# Altium schematic symbol library EMG_MainBoard_Placement_Frozen_20260924.SchLib: 231 symbols (part 4 of 4)
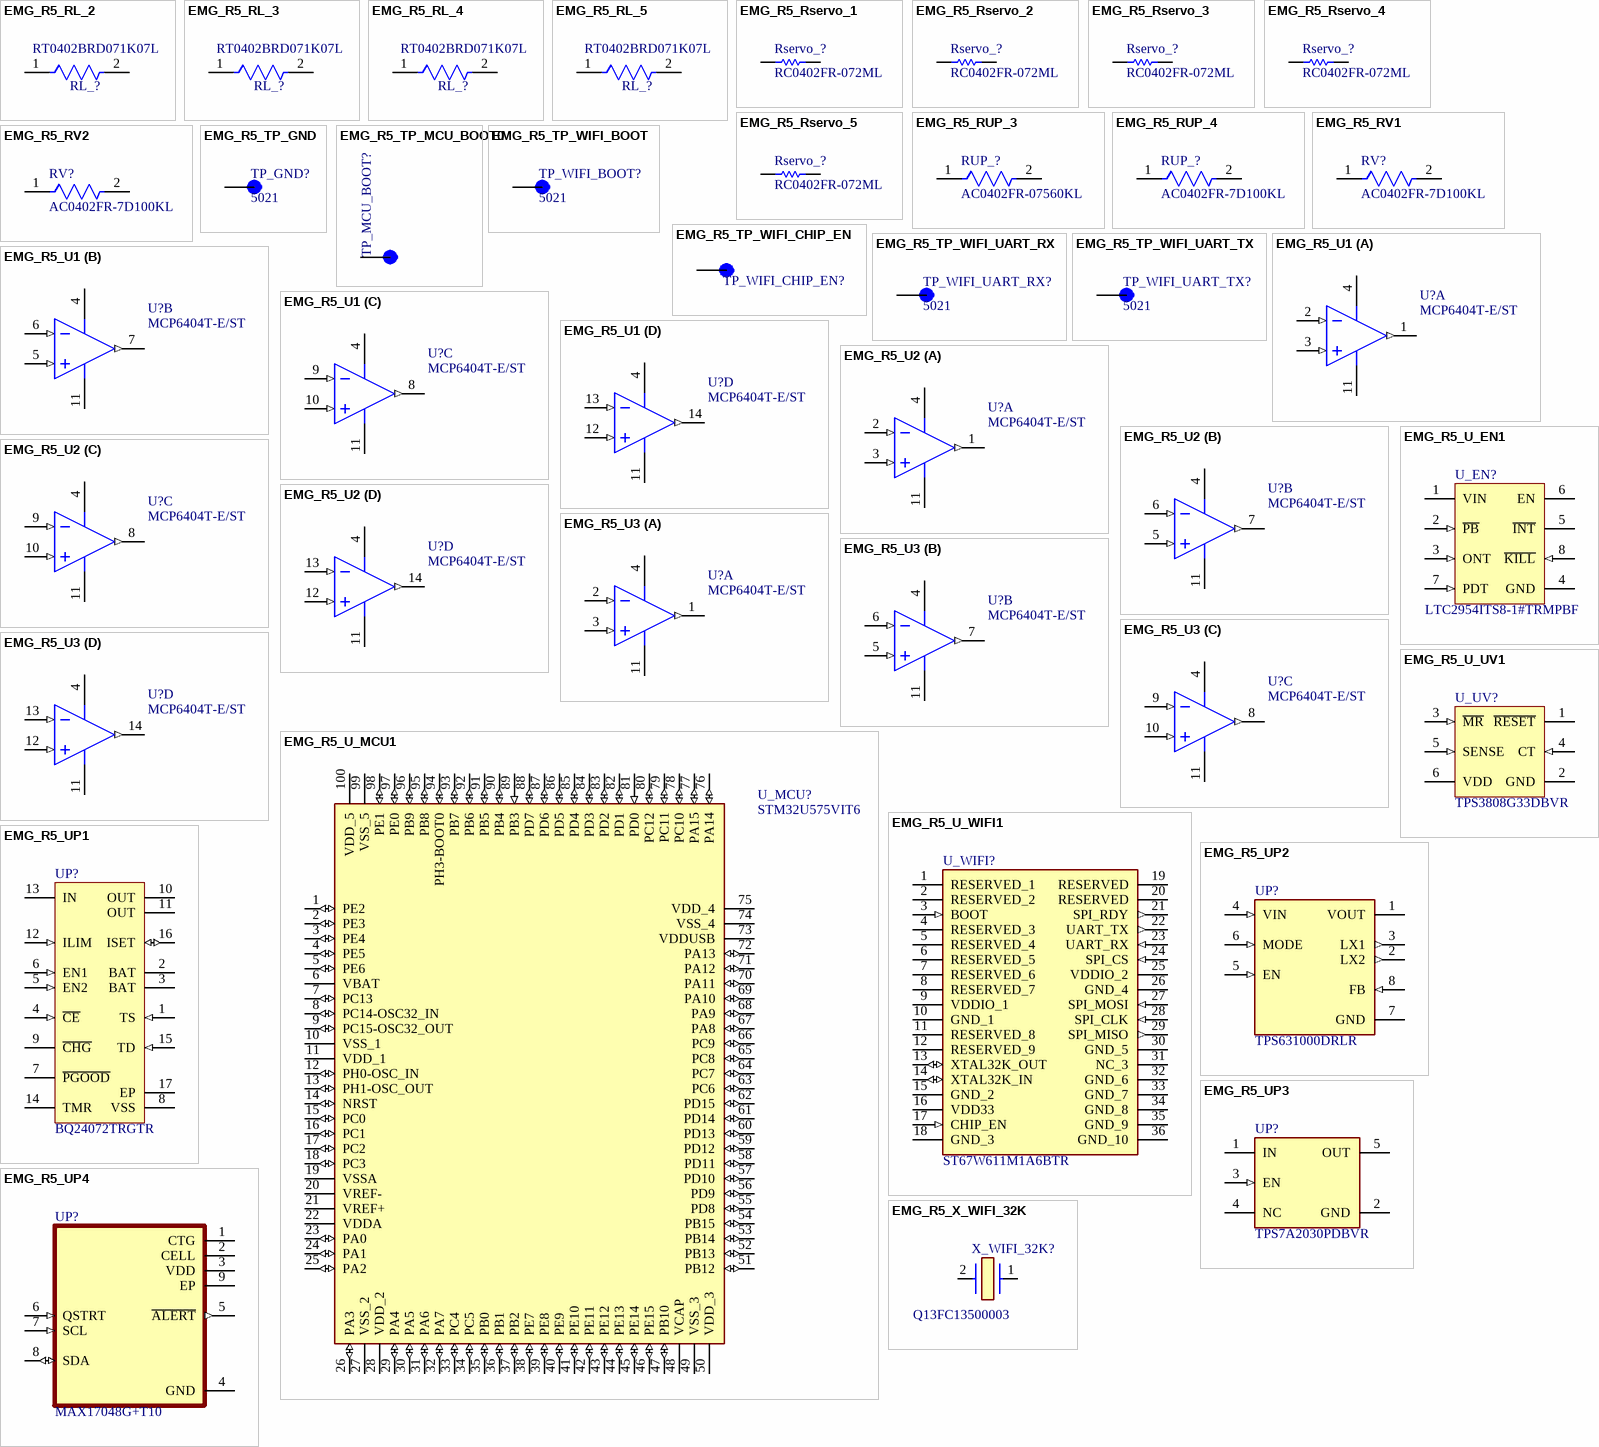
[diagram p8: symbols EMG_R5_RL_2 to EMG_R5_X_WIFI_32K]

## EMG_R5_U3
designator U?, comment MCP6404T-E/ST
None; Nominal Supply Current: 45uA; Power Supply Rejection Ratio (PSRR): 63dB; Unity Gain Bandwidth Product: 1MHz; Amplifier Type: GENERAL PURPOSE; Voltage Gain: 110dB; Number of Channels: 4; Output Current: 15mA; Max Supply Voltage: 6V; Min Supply Voltage: 1.8V; Slew Rate: 0.5V/µs; Input Bias Current: 100pA; Input Offset Voltage (Vos): 4.5mV; Common Mode Rejection Ratio: 56dB; Controlled Revision: R5 2026-09-16; project-local frozen symbol/footprint; Number of Pins: 14; Case/Package: TSSOP; Packaging: Tape and Reel; Technology: CMOS; Lead Free: Lead Free; Max Operating Temperature: 125°C; Mount: Surface Mount; Number of Circuits: 4; Number of Elements: 4; Supply Current: 45uA; RoHS Compliant: Yes; Gain Bandwidth Product: 1MHz; Min Operating Temperature: -40°C
simulation model MCP6401
footprint TSSOP-ST14_N (TSOP, 14-Leads, Body 5x4.4mm, Pitch 0.65mm, IPC Medium Density)
pins on every part: 4 VDD (power), 11 VSS (power)
part A pins: 1 VOUTA (out), 2 VINA- (in), 3 VINA+ (in)
part B pins: 5 VINB+ (in), 6 VINB- (in), 7 VOUTB (out)
part C pins: 8 VOUTC (out), 9 VINC- (in), 10 VINC+ (in)
part D pins: 12 VIND+ (in), 13 VIND- (in), 14 VOUTD (out)

## EMG_R5_U_EN1
designator U_EN?, comment LTC2954ITS8-1#TRMPBF
Pushbutton On / Off  Controller with µP Interrupt, 8-pin SOT23 (TS8-8), -40 to 85 degC, Pb-Free, Mini Tape and Reel; Manufacturer: Linear Technology; Number of Supplies(#): 1; Controlled Revision: R5 2026-09-16; project-local frozen symbol/footprint; ComponentLink2URL: http://cds.linear.com/docs/en/datasheet/2954fb.pdf; DatasheetVersion: Rev. B; ComponentLink2Description: Datasheet; ComponentLink1URL: http://www.linear.com/; Packing: Mini Tape and Reel; ComponentLink3Description: Package Specification; PartNumber: LTC2954ITS8-1#TRMPBF; Code_JEDEC: MO-193; RoHS: TRUE; Mounting Technology: Surface Mount; PackageVersion: Rev. A, 08/2010; PackageDescription: 8-Pin Plastic TSOT-23, Body 2.9 x 1.63 mm, Pitch 0.65 mm; PackageReference: TS8-8; ComponentLink1Description: Manufacturer URL; ComponentLink3URL: http://cds.linear.com/docs/en/packaging/SOT_8_05-08-1637.pdf
footprint LT-TS8-8-TSOT-23_V (SOT23, 8-Leads, Body 2.9x1.75mm, Pitch 0.65mm)
pins: 1 VIN (power) "Power Supply Input: 2.7V to 26.4V", 2 ~{PB} (in) "Pushbutton Input. Connecting P\B\ to  ground through a momentary switch provides on/off  control via the EN/E\N\ and I\N\T\ outputs. An internal 100k  pull-up resistor connects to an internal 1.9V bias voltage.  The rugged (See Datasheet)", 3 ONT (in) "Turn-On Time Input. Placing an external  capacitor to ground determines the additional time (6.4  seconds/uF) the P\B\ pin must be held low before the enable  output is asserted. Floating this pin results in a default  turn (See Datasheet)", 4 GND (power) "Device Ground.", 5 ~{INT} (oc) "Open Drain Interrupt Output. After a  pushbutton turn-off event is detected (tDB,OFF ), the LTC2954  interrupts the system (uP) by asserting the I\N\T\ pin low.  The uP would perform power-down and housekeeping  tasks and (See Datasheet)", 6 EN (oc) "Open Drain Enable Output.  This pin is intended to enable system power. EN is asserted  high after a valid P\B\ turn-on event (tDB,ON + tONT). EN is  released low if: a) K\I\L\L\ is not driven high (by uP) within  512ms of (See Datasheet)", 7 PDT (in) "Power-Down Time Input. A capacitor  to ground determines the additional time (6.4 seconds/uF)  that the pushbutton must be held low before immediately  releasing the EN/E\N\ and I\N\T\ outputs. Floating this pin  results in (See Datasheet)", 8 ~{KILL} (in) "Kill Input. Forcing K\I\L\L\ low releases the  enable output. During system turn-on, this pin is blanked by  a 512ms internal timer (tK\I\L\L\,ON BLANK) to allow the system  to pull K\I\L\L\ high. This pin has an accurate 0.(See Datasheet)"

## EMG_R5_U_MCU1
designator U_MCU?, comment STM32U575VIT6
Integrated Circuit; Manufacturer_Name: STMicroelectronics; Controlled Revision: R5 2026-09-16; project-local frozen symbol/footprint; Datasheet Link: https://www.st.com/resource/en/datasheet/stm32u575ag.pdf; Height: 1.6mm; Manufacturer_Part_Number: STM32U575VIT6; Mouser Part Number: 511-STM32U575VIT6; Mouser Price/Stock: https://www.mouser.co.uk/ProductDetail/STMicroelectronics/STM32U575VIT6?qs=DRkmTr78QAR9I8TWG1L7Og%3D%3D; Arrow Part Number: STM32U575VIT6; Arrow Price/Stock: https://www.arrow.com/en/products/stm32u575vit6/stmicroelectronics.html?utm_currency=USD&region=nac
footprint QFP50P1600X1600X160-100N
pins: 1 PE2 (io), 2 PE3 (io), 3 PE4 (io), 4 PE5 (io), 5 PE6 (io), 6 VBAT (power), 7 PC13 (io), 8 PC14-OSC32_IN (io), 9 PC15-OSC32_OUT (io), 10 VSS_1 (power), 11 VDD_1 (power), 12 PH0-OSC_IN (io), 13 PH1-OSC_OUT (io), 14 NRST (io), 15 PC0 (io), 16 PC1 (io), 17 PC2 (io), 18 PC3 (io), 19 VSSA (power), 20 VREF- (power), 21 VREF+ (power), 22 VDDA (power), 23 PA0 (io), 24 PA1 (io), 25 PA2 (io), 26 PA3 (io), 27 VSS_2 (power), 28 VDD_2 (power), 29 PA4 (io), 30 PA5 (io), 31 PA6 (io), 32 PA7 (io), 33 PC4 (io), 34 PC5 (io), 35 PB0 (io), 36 PB1 (io), 37 PB2 (io), 38 PE7 (io), 39 PE8 (io), 40 PE9 (io), 41 PE10 (io), 42 PE11 (io), 43 PE12 (io), 44 PE13 (io), 45 PE14 (io), 46 PE15 (io), 47 PB10 (io), 48 VCAP (power), 49 VSS_3 (power), 50 VDD_3 (power), 51 PB12 (io), 52 PB13 (io), 53 PB14 (io), 54 PB15 (io), 55 PD8 (io), 56 PD9 (io), 57 PD10 (io), 58 PD11 (io), 59 PD12 (io), 60 PD13 (io), 61 PD14 (io), 62 PD15 (io), 63 PC6 (io), 64 PC7 (io), 65 PC8 (io), 66 PC9 (io), 67 PA8 (io), 68 PA9 (io), 69 PA10 (io), 70 PA11 (io), 71 PA12 (io), 72 PA13 (io), 73 VDDUSB (power), 74 VSS_4 (power), 75 VDD_4 (power), 76 PA14 (io), 77 PA15 (io), 78 PC10 (io), 79 PC11 (io), 80 PC12 (io), 81 PD0 (in), 82 PD1 (io), 83 PD2 (io), 84 PD3 (io), 85 PD4 (io), 86 PD5 (io), 87 PD6 (io), 88 PD7 (io), 89 PB3 (in), 90 PB4 (io), 91 PB5 (io), 92 PB6 (io), 93 PB7 (io), 94 PH3-BOOT0 (io), 95 PB8 (io), 96 PB9 (io), 97 PE0 (io), 98 PE1 (io), 99 VSS_5 (power), 100 VDD_5 (power)

## EMG_R5_U_UV1
designator U_UV?, comment TPS3808G33DBVR
Low Quiescent Current, Programmable-Delay Supervisory Circuit, 1 Supply Monitored, -40 to 125 degC, 6-pin SOT-23 (DBV), Green (RoHS & no Sb/Br); Manufacturer: Texas Instruments; Iq(Typ)(uA): 2.4; VCC(Min)(V): 1.7; Output Driver Type / Reset Output: Active-low, Open-drain; Rating: Catalog; SubFamily: Supervisor and Reset IC; # of Supplies Monitored: 1; Threshold Voltage 1 (typ)(Typ)(V): 3.07; Reset Threshold Accuracy(%): 0.5; VCC(Max)(V): 6.5; Controlled Revision: R5 2026-09-16; project-local frozen symbol/footprint; Code_JEDEC: MO-178-AB*; PackageVersion: revK, Mar-2006; PackageDescription: 6-Pin Plastic Small-Outline Package, 2.9 x 1.6 mm Body, 0.95 mm Pitch, 2.8 mm Lead Span; PartNumber: TPS3808G33DBVR; DatasheetVersion: SBVS050J; Mounting Technology: Surface Mount; ComponentLink1Description: Datasheet; Time Delay(ms): Programmable; ComponentLink1URL: http://www.ti.com/general/docs/lit/getliterature.tsp?genericPartNumber=TPS3808G33&fileType=pdf; PackageReference: DBV0006A
footprint DBV0006A_L (SOT23, 6-Leads, Body 3.05x1.75mm, Pitch 0.95mm, IPC High Density)
pins: 1 ~{RESET} (hiz) "R\E\S\E\T\ is an open-drain output that is driven to a low impedance state when R\E\S\E\T\ is asserted (either the SENSE input is lower than the threshold voltage (VIT) or the M\R\ pin is set to a logic low). R\E\S\E\T\ will (See Datasheet)", 2 GND (power) "Ground", 3 ~{MR} (in) "Driving the manual reset pin (M\R\) low asserts R\E\S\E\T\. M\R\ is internally tied to VDD by a 90k ohm pull-up resistor", 4 CT (in) "Reset period programming pin. Connecting this pin to VDD through a 40k ohm to 200k ohm resistor or leaving it open results in fixed delay times (see Electrical Characteristics). Connecting this pin to a ground referenced (See Datasheet)", 5 SENSE (in) "This pin is connected to the voltage to be monitored. If the voltage at this terminal drops below the threshold voltage VIT, then R\E\S\E\T\ is asserted.", 6 VDD (power) "Supply voltage. It is good analog design practice to place a 0.1µF ceramic capacitor close to this pin."

## EMG_R5_U_WIFI1
designator U_WIFI?, comment ST67W611M1A6BTR
Integrated Circuit; Manufacturer_Name: STMicroelectronics; Controlled Revision: R5 2026-09-16; project-local frozen symbol/footprint; Datasheet Link: https://www.st.com/resource/en/datasheet/st67w611m1.pdf; Height: 2.37mm; Manufacturer_Part_Number: ST67W611M1A6BTR; Arrow Part Number: ST67W611M1A6BTR; Arrow Price/Stock: https://www.arrow.com/en/products/st67w611m1a6btr/stmicroelectronics.html?utm_currency=USD&region=nac
footprint ST67W611M1A6BTR
pins: 1 RESERVED_1, 2 RESERVED_2, 3 BOOT (in), 4 RESERVED_3, 5 RESERVED_4, 6 RESERVED_5, 7 RESERVED_6, 8 RESERVED_7, 9 VDDIO_1 (power), 10 GND_1 (power), 11 RESERVED_8, 12 RESERVED_9, 13 XTAL32K_OUT (io), 14 XTAL32K_IN (io), 15 GND_2 (power), 16 VDD33 (power), 17 CHIP_EN (in), 18 GND_3 (power), 19 RESERVED, 20 RESERVED, 21 SPI_RDY (out), 22 UART_TX (out), 23 UART_RX (in), 24 SPI_CS (in), 25 VDDIO_2 (power), 26 GND_4 (power), 27 SPI_MOSI (in), 28 SPI_CLK (in), 29 SPI_MISO (out), 30 GND_5 (power), 31 NC_3, 32 GND_6 (power), 33 GND_7 (power), 34 GND_8 (power), 35 GND_9 (power), 36 GND_10 (power)

## EMG_R5_UP1
designator UP?, comment BQ24072TRGTR
BQ24072T single-cell Li-ion charger with dynamic power path; OUT tracks battery +225mV with 3.4V minimum regulation under USB power; Manufacturer: Texas Instruments; Eco-Plan: Green (RoHS & no Sb/Br); Over Voltage Protection: N; Li-Ion: Y; SubFamily: Battery Charge Management; Vin(Min)(V): 4.3; Controlled Revision: R5 2026-09-16; project-local frozen symbol/footprint; Code_JEDEC: MO-220; ComponentLink1Description: Datasheet; Mounting Technology: Surface Mount; PartNumber: BQ24072TRGTR; Lead Acid: N; Li-Polymer: Y; NiMH: N; DatasheetVersion: SLUS937A; NiCd: N; ComponentLink1URL: http://www.ti.com/general/docs/lit/getliterature.tsp?genericPartNumber=BQ24072T&fileType=pdf; PackageDescription: 16-Pin Plastic Quad Flat No-Lead, 3 x 3 mm Body, 0.5 mm Pitch, 1.7 x 1.7 mm Exposed Pad; PackageReference: RGT0016C; PackageVersion: revH, Oct-2011; Manufacturer Part Number: BQ24072TRGTR
footprint RGT0016C_V (QFN, 16-Leads, Body 3x3mm, Pitch 0.5mm, Thermal Pad 1.65x1.65mm)
pins: 1 TS (in) "External NTC Thermistor Input. Connect the TS input to the center tap of a resistor divider from VIN to GND with the NTC in parallel with the bottom resistor to monitor the NTC in the battery pack. For applications that do (See Datasheet)", 2 BAT (power) "Charger Power Stage Output and Battery Voltage Sense Input. Connect BAT to the positive terminal of the battery. Bypass BAT to VSS with a 4.7 uF to 47 uF ceramic capacitor.", 3 BAT (power) "Charger Power Stage Output and Battery Voltage Sense Input. Connect BAT to the positive terminal of the battery. Bypass BAT to VSS with a 4.7 uF to 47 uF ceramic capacitor.", 4 ~{CE} (in) "Charge Enable Active-Low Input. Connect C\E\ to a high logic level to place the battery charger in standby mode. In standby mode, OUT is active and battery supplement mode is available. Connect /C\E\ to a low logic level to (See Datasheet)", 5 EN2 (in) "Input Current Limit Configuration Inputs. Use EN1 and En2 to control the maximum input current and enable USB compliance. See Table 1 for the description of the operation states.EN1 and EN2 are internally pulled down with (See Datasheet)", 6 EN1 (in) "Input Current Limit Configuration Inputs. Use EN1 and En2 to control the maximum input current and enable USB compliance. See Table 1 for the description of the operation states.EN1 and EN2 are internally pulled down with (See Datasheet)", 7 ~{PGOOD} (hiz) "Open-Drain Power Good Status Indication Output. P\G\O\O\D\ pulls to VSS when a valid input source is detected. P\G\O\O\D\ is high-impedance when the input power is not within specified limits. Connect P\G\O\O\D\ to the (See Datasheet)", 8 VSS (power) "Ground. Connect to the thermal pad and to the ground rail of the circuit.", 9 ~{CHG} (hiz) "Open-Drain Charging Status Indication Output. CHG pulls to VSS when the battery is charging. C\H\G\ is high-impedance when charging is complete or when the charger is disabled. C\H\G\ flashes to indicate a timer fault. (See Datasheet)", 10 OUT (power) "System Supply Output. OUT provides a regulated output when the input is below the OVP threshold and above the regulation voltage. When the input is out of the operation range,OUT is connected to VBAT except when SYSOFF is (See Datasheet)", 11 OUT (power) "System Supply Output. OUT provides a regulated output when the input is below the OVP threshold and above the regulation voltage. When the input is out of the operation range,OUT is connected to VBAT except when SYSOFF is (See Datasheet)", 12 ILIM (in) "Adjustable Current Limit Programming Input. Connect a 1.07 kohm to 7.5kohm resistor from ILIM to VSS to program the maximum input current (EN2=1, EN1=0). The input current includes the system load and the battery charge (See Datasheet)", 13 IN (power) "Input Power Connection. Connect IN to the external DC supply (AC adapter or USB port).The input operating range is 4.35V to 6.6V. The input accepts voltages up to 26V without damage, but operation is suspended. Bypass IN to (See Datasheet)", 14 TMR "Timer Programming Input. TMR controls the pre-charge and fast-charge safety timers.Connect TMR to VSS to disable all safety timers. Connect a 18 kohm to 72 kohm resistor between TMR and VSS to program the timers to a desired (See Datasheet)", 15 TD (in) "Termination Disable Input. Connect TD high to disable charger termination. Connect TD to VSS to enable charger termination. TD is checked during startup only and cannot be changed during operation. See the TD section in this (See Datasheet)", 16 ISET (io) "Fast Charge Current Programming Input. Connect a 590 ohm to 3 kohm resistor from ISET to VSS to program the fast charge current level. Charging is disabled if ISET is left unconnected. While charging, the voltage ISET (See Datasheet)", 17 EP (power) "There is an internal electrical connection between the exposed thermal pad and the VSS pin of the device. The thermal pad must be connected to the same potential as the VSS pin on the printed circuit board. Do not use the (See Datasheet)"

## EMG_R5_UP2
designator UP?, comment TPS631000DRLR
1.5-A output current, high-power-density buck-boost converter; MF: Texas Instruments; Controlled Revision: R5 2026-09-16; project-local frozen symbol/footprint; SnapEDA_Link: https://www.snapeda.com/parts/TPS631000DRLR/Texas+Instruments/view-part/?ref=snap; Package: SOT-583 Texas Instruments; Value: *; MP: TPS631000DRLR; Check_prices: https://www.snapeda.com/parts/TPS631000DRLR/Texas+Instruments/view-part/?ref=eda
footprint SOT50P160X60-8N
pins: 1 VOUT (power), 2 LX2 (out), 3 LX1 (out), 4 VIN (in), 5 EN (in), 6 MODE (in), 7 GND (power), 8 FB (in)

## EMG_R5_UP3
designator UP?, comment TPS7A2030PDBVR
IC REG LINEAR 3V 300MA SOT23-5; Controlled Revision: R5 2026-09-16; project-local frozen symbol/footprint; RoHS Compliant: Yes
footprint FP-DBV0005A-IPC_C
pins: 1 IN (power), 2 GND (power), 3 EN (in), 4 NC, 5 OUT (power)

## EMG_R5_UP4
designator UP?, comment MAX17048G+T10
3ÂµA 1-Cell/2-Cell Fuel Gauge with ModelGauge; MF: Analog Devices; Controlled Revision: R5 2026-09-16; project-local frozen symbol/footprint; Package: TDFN-8 Maxim; Price: None; Check_prices: https://www.snapeda.com/parts/MAX17048G+T10/Analog+Devices/view-part/?ref=eda; Value: *; SnapEDA_Link: https://www.snapeda.com/parts/MAX17048G+T10/Analog+Devices/view-part/?ref=snap; MP: MAX17048G+T10; Availability: In Stock; Purchase-URL: https://pricing.snapeda.com/search/part/MAX17048G+T10/?ref=eda
footprint SON50P200X200X80-9N
pins: 1 CTG (power), 2 CELL (power), 3 VDD (power), 4 GND (power), 5 ~{ALERT} (out), 6 QSTRT (in), 7 SCL (in), 8 SDA (io), 9 EP (power)

## EMG_R5_X_WIFI_32K
designator X_WIFI_32K?, comment Q13FC13500003
Epson FC-135 32.768 kHz 9 pF +/-20 ppm, ESR 70 kohm max, 3.2x1.5 mm, 2 terminals; Manufacturer: Seiko Epson Corporation; Load Capacitance: 9 pF; Tolerance: +/-20 ppm at 25 degC, 0.1 uW; ESR: 70 kohm maximum; Drive Level: 0.1 uW nominal; 0.5 uW maximum; Packaging Note: Q13FC13500003xx; xx=00 is 3000/reel; Controlled Revision: R5 2026-09-16; project-local frozen symbol/footprint; Manufacturer Part Number: Q13FC13500003; Frequency: 32.768 kHz; Package: SMD3215 / 3.2 x 1.5 mm / 2 terminal; Height: 0.8 +/-0.1 mm; Temperature Range: -40 to +85 degC; Datasheet Link: https://download.epsondevice.com/td/pdf/td_xtal_32khz/FC-135_Q13FC13500003_en.pdf; Value: 32.768 kHz
footprint EMG_FC135_3215_2P
pins: 1 CRYSTAL_1, 2 CRYSTAL_2